# Altium schematic symbol library H1164.SchLib: 1 symbol
Pins are listed as number, name and electrical type; pins without a type are passive.

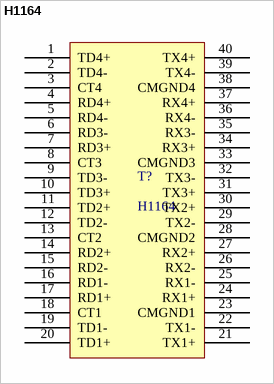
[diagram p0: symbol H1164]

## H1164
designator T?
Pulse 10/100BASE-TX  TRANSFORMER MODULES
footprint H1164 (SOIC, 40-Leads, Body 28.6x12.2mm (max), Pitch 1.27mm, IPC Medium Density)
pins: 1 TD4+, 2 TD4-, 3 CT4, 4 RD4+, 5 RD4-, 6 RD3-, 7 RD3+, 8 CT3, 9 TD3-, 10 TD3+, 11 TD2+, 12 TD2-, 13 CT2, 14 RD2+, 15 RD2-, 16 RD1-, 17 RD1+, 18 CT1, 19 TD1-, 20 TD1+, 21 TX1+, 22 TX1-, 23 CMGND1, 24 RX1+, 25 RX1-, 26 RX2-, 27 RX2+, 28 CMGND2, 29 TX2-, 30 TX2+, 31 TX3+, 32 TX3-, 33 CMGND3, 34 RX3+, 35 RX3-, 36 RX4-, 37 RX4+, 38 CMGND4, 39 TX4-, 40 TX4+